# Altium schematic symbol library Schlib1.SchLib: 1 symbol
Pins are listed as number, name and electrical type; pins without a type are passive.

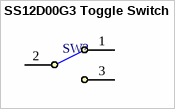
[diagram p0: symbol SS12D00G3 Toggle Switch]

## SS12D00G3 Toggle Switch
designator SW?, comment SS12D00G3  (value not drawn)
SS12D00G3 Toggle Switch
footprint SS12D00G3 (SS12D00G3 TOGGLE SWITCH)
pins: 1, 2, 3